# Altium schematic symbol library 436500200.SchLib: 1 symbol
Pins are listed as number, name and electrical type; pins without a type are passive.

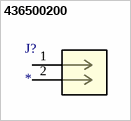
[diagram p0: symbol 436500200]

## 436500200
designator J?
No Description Available; Mfr_Name: Molex Connector Corporation; RefDes: RefDes; Type: Type
footprint CONN_SD-43650-001_02_MOL
pins: 1, 2